# Altium footprint library led.PcbLib: 3 footprints
Each footprint in its own frame and in the unit in brackets; x right, y up, seen from the top. Pads: shape width x height; smd on the part's side, far side on the other; paste and mask are expansions set on the pad; w line width, h text height; cw(c..) or ccw(c..) is an arc to the next point about the centre after c.
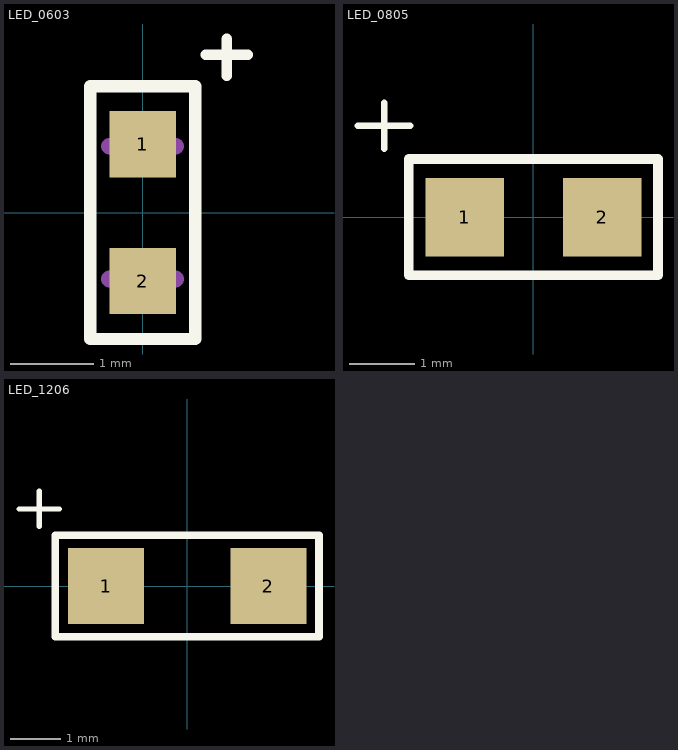
[diagram p0: the footprints below, top view; thin cyan lines are the x and y axes]

## LED_0603 [mm]
pads (2):
  rect 0.8x0.8 smd: 1(0,0.825) 2(0,-0.825)
Top Overlay:
  lines w0.127: 0.762,1.905 1.27,1.905 ; 1.016,1.651 1.016,2.095
  lines w0.15: -0.635,-1.524 -0.635,1.524 0.635,1.524 0.635,-1.524 -0.635,-1.524
Mechanical 13:
  lines w0.2: -0.4,-0.8 0.4,-0.8 ; -0.4,0.8 0.4,0.8
3D body "LED0603.STEP": height 0.6, standoff 0, extent -0.4,-0.8 0.4,0.8

## LED_0805 [mm]
pads (2):
  rect 1.2x1.2 smd: 1(-1.05,0) 2(1.05,0)
Top Overlay:
  lines w0.1: -2.681,1.396 -1.881,1.396 ; -2.281,1.046 -2.281,1.746
  lines w0.15: -1.905,-0.889 -1.905,0.889 1.905,0.889 1.905,-0.889 -1.905,-0.889
3D body "LED0805.step": height 0.8, standoff -0.31, extent -1,-0.625 1,0.625

## LED_1206 [mm]
pads (2):
  rect 1.5x1.5 smd: 1(-1.6,0) 2(1.6,0)
Top Overlay:
  lines w0.1: -3.316,1.523 -2.516,1.523 ; -2.916,1.173 -2.916,1.873
  lines w0.15: -2.6,-1 2.6,-1 2.6,1 -2.6,1 -2.6,-1
3D body "LED1206 RED.STEP": height 1.1, standoff 0, extent -1.6,-0.8 1.6,0.8